# EAGLE library part C-00159_RJ45_AKITUKI (library Akizuki)
RJ45 PulseJack w/LEDs
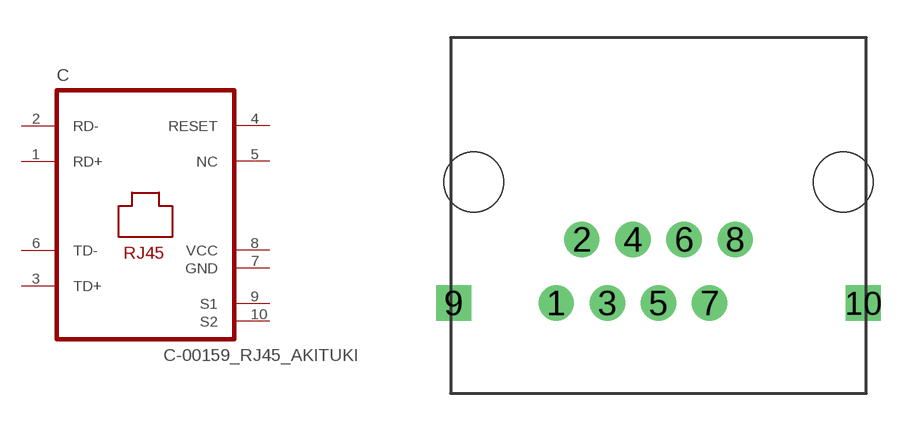
[diagram p16: symbol with the pads of PJ-J0; footprint PJ-J0]

Designator prefix C

## C-00159_RJ45_AKITUKI  [PJ-J0]
1  RD+
2  RD-
3  TD+
4  RESET
5  NC
6  TD-
7  GND  pas
8  VCC  pas
9  S1  pas
10  S2  pas

## Footprint PJ-J0 (pad centres in mm)
drill 0.9: 1 0,0; 2 1.02,2.54; 3 2.04,0; 4 3.06,2.54; 5 4.08,0; 6 5.1,2.54; 7 6.12,0; 8 7.14,2.54
drill 0.9 square: 9 -4.095,0; 10 12.255,0
hole 2.4 at -3.295,4.84
hole 2.4 at 11.455,4.84